# Altium schematic symbol library QUTMS_SwitchLibrary.SchLib: 4 symbols
Pins are listed as number, name and electrical type; pins without a type are passive.

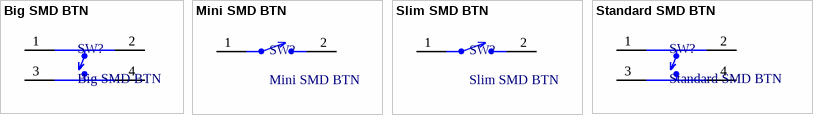
[diagram p0: symbols Big SMD BTN to Standard SMD BTN]

## Big SMD BTN
designator SW?
Cost common big SMD button, 4 Lead
pins: 1, 2, 3, 4

## Mini SMD BTN
designator SW?
Cost common Mini SMD button, 2 Lead
pins: 1, 2

## Slim SMD BTN
designator SW?
Cost common slim SMD button, 2 Lead; ComponentLink1Description: LCSC; ComponentLink1URL: https://lcsc.com/product-detail/Tactile-Switches_BRIGHT-TSA063G50-250_C294565.html
pins: 1, 2

## Standard SMD BTN
designator SW?
Cost common SMD button, 4 Lead; ComponentLink1Description: LCSC; ComponentLink1URL: https://lcsc.com/product-detail/Tactile-Switches_BRIGHT-TSA063G50-250_C294565.html
footprint StandardSMDBTN (https://lcsc.com/product-detail/Tactile-Switches_BRIGHT-TSA063G50-250_C294565.html)
pins: 1, 2, 3, 4